# EAGLE library part KONASHI1.0 (library konashi)
konashiは、スマホ・タブレット端末と連携するフィジカルコンピューティングのためのツールキットです。
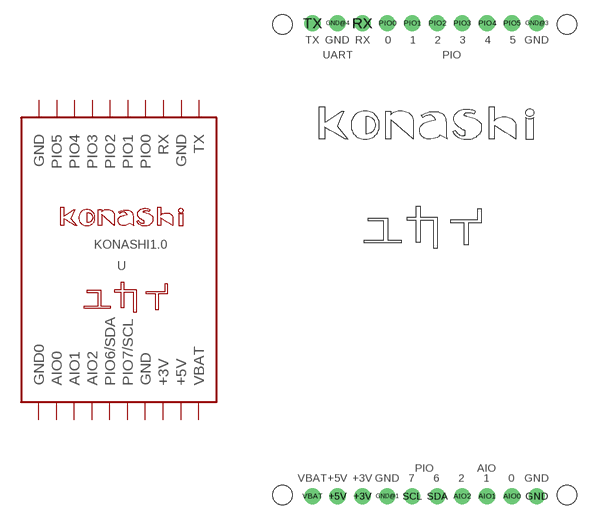
[diagram p3: symbol with the pads of KONASHI1.0; footprint KONASHI1.0]

Designator prefix U

## KONASHI1.0  [KONASHI1.0]
+3V  +3V  pwr
+5V  +5V  pwr
AIO0  AIO0
AIO1  AIO1
AIO2  AIO2
GND  GND0  pwr
GND@1  GND  pwr
GND@3  GND  pwr
GND@4  GND  pwr
PIO0  PIO0
PIO1  PIO1
PIO2  PIO2
PIO3  PIO3
PIO4  PIO4
PIO5  PIO5
RX  RX
SCL  PIO7/SCL
SDA  PIO6/SDA
TX  TX
VBAT  VBAT  pwr

## Footprint KONASHI1.0 (pad centres in mm)
konashiは、スマホ・タブレット端末と連携するフィジカルコンピューティングのためのツールキットです。
drill 1.1: +3V -7.62,-20.32; +5V -10.16,-20.32; AIO0 7.62,-20.32; AIO1 5.08,-20.32; AIO2 2.54,-20.32; GND 10.16,-20.32; GND@1 -5.08,-20.32; GND@3 10.16,27.94; GND@4 -10.16,27.94; PIO0 -5.08,27.94; PIO1 -2.54,27.94; PIO2 0,27.94; PIO3 2.54,27.94; PIO4 5.08,27.94; PIO5 7.62,27.94; RX -7.62,27.94; SCL -2.54,-20.32; SDA 0,-20.32; TX -12.7,27.94; VBAT -12.7,-20.32